# Altium footprint library Aluminum_Electrolytics.PcbLib: 1 footprints
Each footprint in its own frame and in the unit in brackets; x right, y up, seen from the top. Pads: shape width x height; smd on the part's side, far side on the other; paste and mask are expansions set on the pad; w line width, h text height; cw(c..) or ccw(c..) is an arc to the next point about the centre after c.
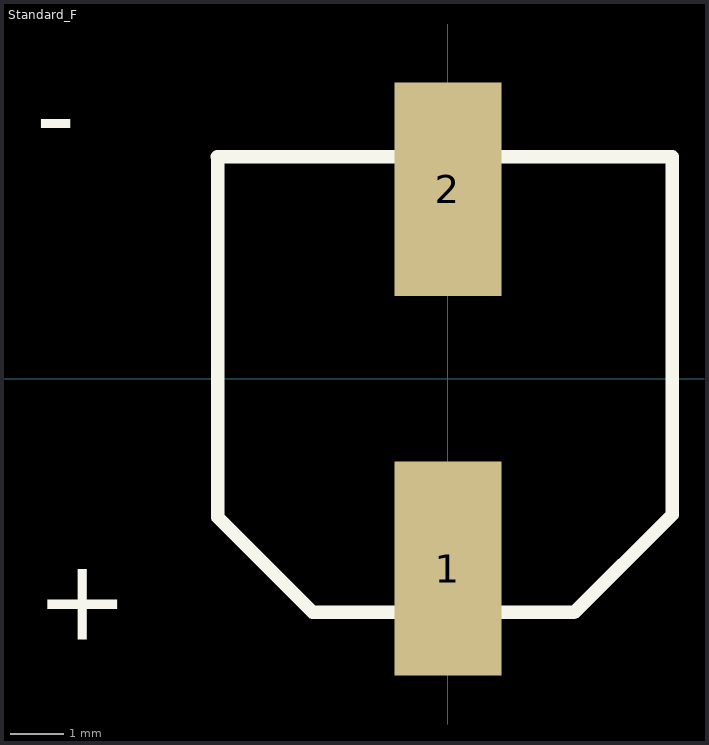
[diagram p0: the footprint, top view; thin cyan lines are the x and y axes]

## Standard_F [mm] "Size code F."
pads (2):
  rect 2x4 smd: 1(0,-3.55) 2(0,3.55)
Top Overlay:
  lines w0.254: -4.315,4.159 4.185,4.159 ; -4.311,4.111 -4.311,-2.589 -4.311,-2.591 -2.533,-4.369 2.357,-4.369 ; 2.381,-4.36 4.2,-2.541 4.2,4.159
  text "+" at -7.718,-4.884 h1.52
  text "-" at -7.718,4.212 h1.52